# Altium footprint library Connectors - Card Edge - Edgeboard.PcbLib: 3 footprints
Each footprint in its own frame and in the unit in brackets; x right, y up, seen from the top. Pads: shape width x height; smd on the part's side, far side on the other; paste and mask are expansions set on the pad; w line width, h text height; cw(c..) or ccw(c..) is an arc to the next point about the centre after c.
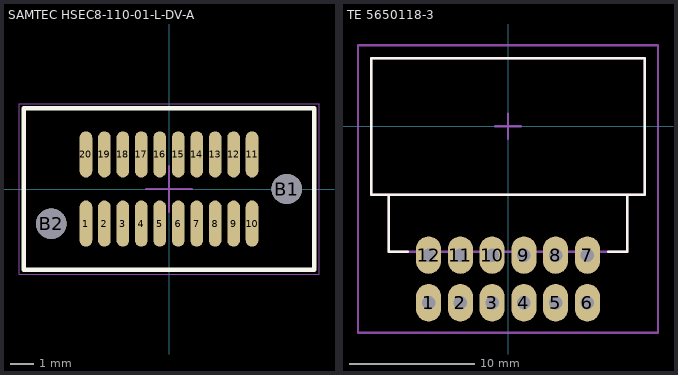
[diagram p0: the footprints below, top view; thin cyan lines are the x and y axes]

## PCBComponent_1 [mm]

## SAMTEC HSEC8-110-01-L-DV-A [mm] "20 Position Female Connector, Daul Edge, 0.8mm Pitch, 12.6x7.00mm Body"
pads (22):
  oval 0.55x2 smd: 1(-3.6,-1.5) 2(-2.8,-1.5) 3(-2,-1.5) 4(-1.2,-1.5) 5(-0.4,-1.5) 6(0.4,-1.5) 7(1.2,-1.5) 8(2,-1.5) 9(2.8,-1.5) 10(3.6,-1.5) 11(3.6,1.5) 12(2.8,1.5) 13(2,1.5) 14(1.2,1.5) 15(0.4,1.5) 16(-0.4,1.5) 17(-1.2,1.5) 18(-2,1.5) 19(-2.8,1.5) 20(-3.6,1.5)
  round 1.32 hole 1.32 unplated: B1(5.1,0) B2(-5.1,-1.5)
Top Overlay:
  lines w0.2: -6.3,-3.5 6.3,-3.5 6.3,3.5 -6.3,3.5 -6.3,-3.5
Mechanical 1:
  lines w0.1: -6.3,-3.5 -6.3,3.5 6.3,3.5 6.3,-3.5 -6.3,-3.5
Mechanical 15:
  lines w0.05: -6.5,-3.7 6.5,-3.7 6.5,3.7 -6.5,3.7 -6.5,-3.7
  lines w0.1: -1,0 0,0 ; 0,-1 0,0 ; 0,1 0,0 ; 1,0 0,0
3D body "Samtec - HSEC8-110-01-L-DV-A v3.step": height 7.98, standoff -1.32, extent -6.3,-3.5 6.3,3.5

## TE 5650118-3 [mm]
height 9.35
pads (12):
  oval 2x3 hole 1.07: 1(-6.35,-14.097) 2(-3.81,-14.097) 3(-1.27,-14.097) 4(1.27,-14.097) 5(3.81,-14.097) 6(6.35,-14.097) 7(6.35,-10.287) 8(3.81,-10.287) 9(1.27,-10.287) 10(-1.27,-10.287) 11(-3.81,-10.287) 12(-6.35,-10.287)
Top Overlay:
  lines w0.2: -9.525,-5.459 -9.525,-10.027 -8,-10.027 ; 8,-10.027 9.525,-10.027 9.525,-5.459 ; -10.922,-5.459 10.922,-5.459 10.922,5.461 -10.922,5.461 -10.922,-5.459
Mechanical 1:
  lines w0.2: -9.525,-5.459 -9.525,-10.027 9.525,-10.027 9.525,-5.459 ; -10.922,-5.459 -10.922,5.461 10.922,5.461 10.922,-5.459 -10.922,-5.459
Mechanical 15:
  lines w0.2: -1,0 1,0 ; 0,-1 0,1 ; -12,-16.5 -12,6.5 12,6.5 12,-16.5 -12,-16.5
3D body "TE c-5650118-3-a-3d.STEP": height 9.35, standoff -2.29, extent -10.922,-14.465 10.922,5.461